# EAGLE library part PCM5122PWR (library theremin)
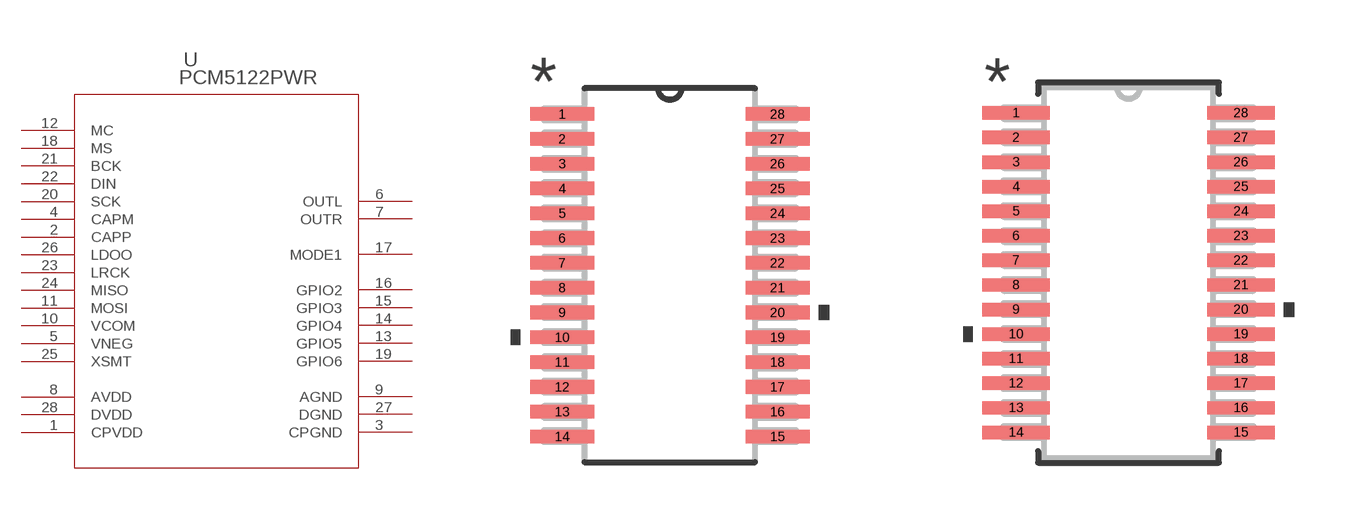
[diagram p2: symbol with the pads of PW28; footprints PW28, PW28-M]

Designator prefix U

## PCM5122PWR (COPYRIGHT: Copyright (C) 2025 Ultra Librarian. All rights reserved.; MANUFACTURER_PART_NUMBER: PCM5122PWR; MFR_NAME: Texas Instruments)  [PW28]
1  CPVDD  pwr
2  CAPP  out
3  CPGND  pwr
4  CAPM  out
5  VNEG  out
6  OUTL  out
7  OUTR  out
8  AVDD  pwr
9  AGND  pwr
10  VCOM  out
11  MOSI  in
12  MC  in
13  GPIO5
14  GPIO4
15  GPIO3
16  GPIO2
17  MODE1  in
18  MS  in
19  GPIO6
20  SCK  in
21  BCK
22  DIN  in
23  LRCK
24  MISO
25  XSMT  in
26  LDOO  pas
27  DGND  pwr
28  DVDD  pwr

## PCM5122PWRPW28-M (COPYRIGHT: Copyright (C) 2025 Ultra Librarian. All rights reserved.; MANUFACTURER_PART_NUMBER: PCM5122PWR; MFR_NAME: Texas Instruments)  [PW28-M]
Pads as for PW28

## PCM5122PWRPW28-L (COPYRIGHT: Copyright (C) 2025 Ultra Librarian. All rights reserved.; MANUFACTURER_PART_NUMBER: PCM5122PWR; MFR_NAME: Texas Instruments)  [PW28-L]
Pads as for PW28

## Footprint PW28 (pad centres in mm)
smd 1.676 x 0.356: 1 -2.819,4.225; 2 -2.819,3.575; 3 -2.819,2.925; 4 -2.819,2.275; 5 -2.819,1.625; 6 -2.819,0.975; 7 -2.819,0.325; 8 -2.819,-0.325; 9 -2.819,-0.975; 10 -2.819,-1.625; 11 -2.819,-2.275; 12 -2.819,-2.925; 13 -2.819,-3.575; 14 -2.819,-4.225; 15 2.819,-4.225; 16 2.819,-3.575; 17 2.819,-2.925; 18 2.819,-2.275; 19 2.819,-1.625; 20 2.819,-0.975; 21 2.819,-0.325; 22 2.819,0.325; 23 2.819,0.975; 24 2.819,1.625; 25 2.819,2.275; 26 2.819,2.925; 27 2.819,3.575; 28 2.819,4.225

## Footprint PW28-M (pad centres in mm)
smd 1.778 x 0.356: 1 -2.972,4.225; 2 -2.972,3.575; 3 -2.972,2.925; 4 -2.972,2.275; 5 -2.972,1.625; 6 -2.972,0.975; 7 -2.972,0.325; 8 -2.972,-0.325; 9 -2.972,-0.975; 10 -2.972,-1.625; 11 -2.972,-2.275; 12 -2.972,-2.925; 13 -2.972,-3.575; 14 -2.972,-4.225; 15 2.972,-4.225; 16 2.972,-3.575; 17 2.972,-2.925; 18 2.972,-2.275; 19 2.972,-1.625; 20 2.972,-0.975; 21 2.972,-0.325; 22 2.972,0.325; 23 2.972,0.975; 24 2.972,1.625; 25 2.972,2.275; 26 2.972,2.925; 27 2.972,3.575; 28 2.972,4.225

## Footprint PW28-L (pad centres in mm)
smd 1.168 x 0.305: 1 -2.87,4.225; 2 -2.87,3.575; 3 -2.87,2.925; 4 -2.87,2.275; 5 -2.87,1.625; 6 -2.87,0.975; 7 -2.87,0.325; 8 -2.87,-0.325; 9 -2.87,-0.975; 10 -2.87,-1.625; 11 -2.87,-2.275; 12 -2.87,-2.925; 13 -2.87,-3.575; 14 -2.87,-4.225; 15 2.87,-4.225; 16 2.87,-3.575; 17 2.87,-2.925; 18 2.87,-2.275; 19 2.87,-1.625; 20 2.87,-0.975; 21 2.87,-0.325; 22 2.87,0.325; 23 2.87,0.975; 24 2.87,1.625; 25 2.87,2.275; 26 2.87,2.925; 27 2.87,3.575; 28 2.87,4.225